# Altium integrated library 24LC16B-E_SN.IntLib: 1 symbol
Pins are listed as number, name and electrical type; pins without a type are passive.

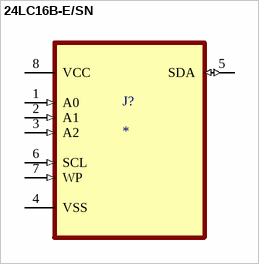
[diagram p0: symbol 24LC16B-E/SN]

## 24LC16B-E/SN
designator J?
16K I2C Serial EEPROM; MP: 24LC16B-E/SN; Package: None; Price: None; Value: *; Availability: Unavailable
footprint SOIC127P600X175-8N
pins: 1 A0 (in), 2 A1 (in), 3 A2 (in), 4 VSS, 5 SDA (io), 6 SCL (in), 7 WP (in), 8 VCC (power)